# EAGLE library part MMA8451Q (library lib_stankus)
Freescale MMA8451Q accelerometer Farnell #1842359
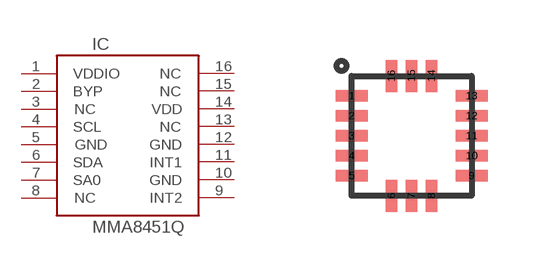
[diagram p60: symbol with the pads of QFN16_3_05_SPEC; footprint QFN16_3_05_SPEC]

Designator prefix IC

## MMA8451Q-QFN16  [QFN16_3_05_SPEC]
1  VDDIO  pas
2  BYP  pas
3  NC  nc
4  SCL  pas
5  GND  pas
6  SDA  pas
7  SA0  pas
8  NC  pas
9  INT2  pas
10  GND  pas
11  INT1  pas
12  GND  pas
13  NC  pas
14  VDD  pas
15  NC  pas
16  NC  pas

## Footprint QFN16_3_05_SPEC (pad centres in mm)
QFN32, 3x3 MM, 0.5 MM, SPECIAL
smd 0.8 x 0.28: 1 -1.5,1; 2 -1.5,0.5; 3 -1.5,0; 4 -1.5,-0.5; 5 -1.5,-1; 9 1.5,-1; 10 1.5,-0.5; 11 1.5,0; 12 1.5,0.5; 13 1.5,1
smd 0.28 x 0.8: 6 -0.5,-1.5; 7 0,-1.5; 8 0.5,-1.5; 14 0.5,1.5; 15 0,1.5; 16 -0.5,1.5